# EAGLE library part LTC3113 (library components)
"LTC3113 3A Low Noise Buck/Boost DC-DC Converter"
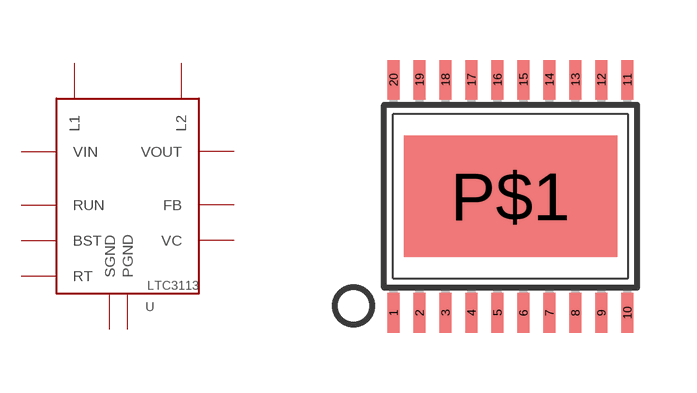
[diagram p5: symbol with the pads of TSSOP20; footprint TSSOP20]

Designator prefix -

## LTC3113  [TSSOP20]
1  PGND  pwr
2  VOUT  pwr
3  VOUT  pwr
4  VIN  pwr
5  VIN  pwr
6  VIN  pwr
7  SGND  pwr
8  BST  in
9  RT  in
10  PGND  pwr
11  PGND  pwr
12  VC
13  FB
14  RUN  in
15  L1
16  L1
17  L1
18  L2
19  L2
20  PGND  pwr
P$1  PGND  pwr

## Footprint TSSOP20 (pad centres in mm)
Thin Shrink Small Outline Plastic 20 MAX3223-MAX3243.pdf
smd 0.305 x 0.991: 1 -2.925,-2.918; 2 -2.275,-2.918; 3 -1.625,-2.918; 4 -0.975,-2.918; 5 -0.325,-2.918; 6 0.325,-2.918; 7 0.975,-2.918; 8 1.625,-2.918; 9 2.275,-2.918; 10 2.925,-2.918; 11 2.925,2.918; 12 2.275,2.918; 13 1.625,2.918; 14 0.975,2.918; 15 0.325,2.918; 16 -0.325,2.918; 17 -0.975,2.918; 18 -1.625,2.918; 19 -2.275,2.918; 20 -2.925,2.918
smd 5.334 x 3.048: P$1 0,0